# EAGLE library part SHT31 (library Kunosheru)
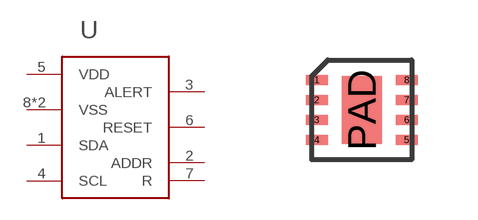
[diagram p8: symbol with the pads of SHT31; footprint SHT31]

Designator prefix -

## SHT31  [SHT31]
1  SDA
2  ADDR
3  ALERT
4  SCL
5  VDD
6  RESET
7  R
8  VSS
PAD  VSS

## Footprint SHT31 (pad centres in mm)
smd 0.55 x 0.25: 1 -1.127,0.75; 2 -1.127,0.25; 3 -1.127,-0.25; 4 -1.127,-0.75; 5 1.127,-0.75; 6 1.127,-0.25; 7 1.127,0.25; 8 1.127,0.75
smd 1 x 1.7: PAD 0,0